# Altium footprint library NanoFit3pos.PcbLib: 1 footprints
Each footprint in its own frame and in the unit in brackets; x right, y up, seen from the top. Pads: shape width x height; smd on the part's side, far side on the other; paste and mask are expansions set on the pad; w line width, h text height; cw(c..) or ccw(c..) is an arc to the next point about the centre after c.
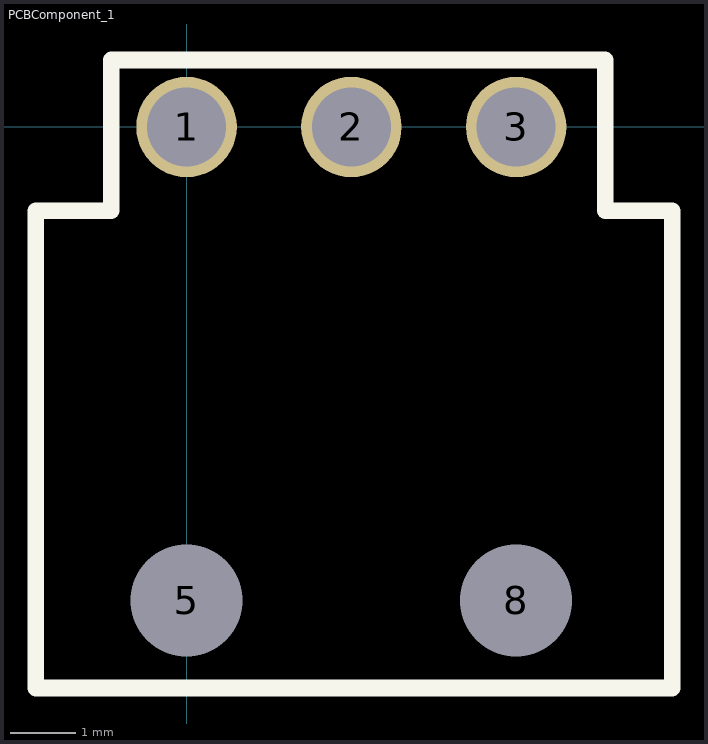
[diagram p0: the footprint, top view; thin cyan lines are the x and y axes]

## PCBComponent_1 [mil]
pads (5):
  round 60 hole 47.24: 1(0,0) 2(98.43,0) 3(196.85,0)
  round 60 hole 66.93: 5(0,-282.68) 8(196.85,-282.68)
Top Overlay:
  lines w10: -90,-335 -90,-50 -45,-50 -45,40 250,40 250,-50 290,-50 290,-335 -90,-335
3D body "1053131203.stp": height 255.51, standoff -131.89, extent -67.71,-468.11 264.57,10.53